# EAGLE library part BP1808 (library _mtvl.power)
BP1808 Boost, Buck and Buck-Boost DC/DC LED Driver https://datasheet.lcsc.com/lcsc/1810010350_BPS-Bright-Power-Semicon-BP1808_C85659.pdf
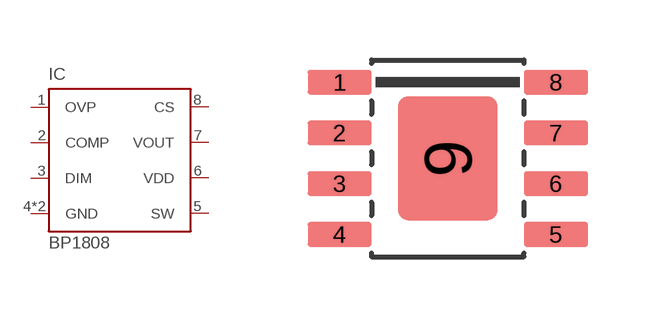
[diagram p20: symbol with the pads of SOIC8N; footprint SOIC8N]

Designator prefix IC

## BP1808  [SOIC8N]
1  OVP
2  COMP
3  DIM
4  GND
5  SW
6  VDD
7  VOUT
8  CS
9  GND

## Footprint SOIC8N (pad centres in mm)
Small Outline IC with Power Pad
smd 1.6 x 0.61: 1 -2.705,1.905; 2 -2.705,0.635; 3 -2.705,-0.635; 4 -2.705,-1.905; 5 2.705,-1.905; 6 2.705,-0.635; 7 2.705,0.635; 8 2.705,1.905
smd 2.49 x 3.1: 9 0,0